# Altium schematic symbol library 1190297.SchLib: 1 symbol
Pins are listed as number, name and electrical type; pins without a type are passive.

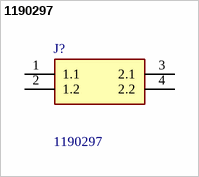
[diagram p0: symbol 1190297]

## 1190297
designator J?
PCB terminal block, nominal current: 24 A, rated voltage (III/2): 400 V, nominal cross section: 2.5 mm2, number of potentials: 2, number of rows: 1, number of positions per row: 2, product range: LPT 2,5/, pitch: 5 mm, connection method: Lever Push-in connection, mounting: Wave soldering, conductor/PCB connection direction: 0 , color: green, Pin layout: Linear pinning, Solder pin [P]: 3.5 mm, type of packaging: packed in cardboard; Manufacturer_Name: Phoenix Contact; Geometry.Height: 23.58mm; Mouser Part Number: 651-1190297; Mouser Price/Stock: https://www.mouser.co.uk/ProductDetail/Phoenix-Contact/1190297?qs=QNEnbhJQKvaBinyAO%252BdsFA%3D%3D; Manufacturer_Part_Number: 1190297; Datasheet Link: https://g.componentsearchengine.com/Datasheets/0/15169004.pdf
footprint 1190297
pins: 1 1.1, 2 1.2, 3 2.1, 4 2.2